# Altium footprint library 0805RES.PcbLib: 1 footprints
Each footprint in its own frame and in the unit in brackets; x right, y up, seen from the top. Pads: shape width x height; smd on the part's side, far side on the other; paste and mask are expansions set on the pad; w line width, h text height; cw(c..) or ccw(c..) is an arc to the next point about the centre after c.
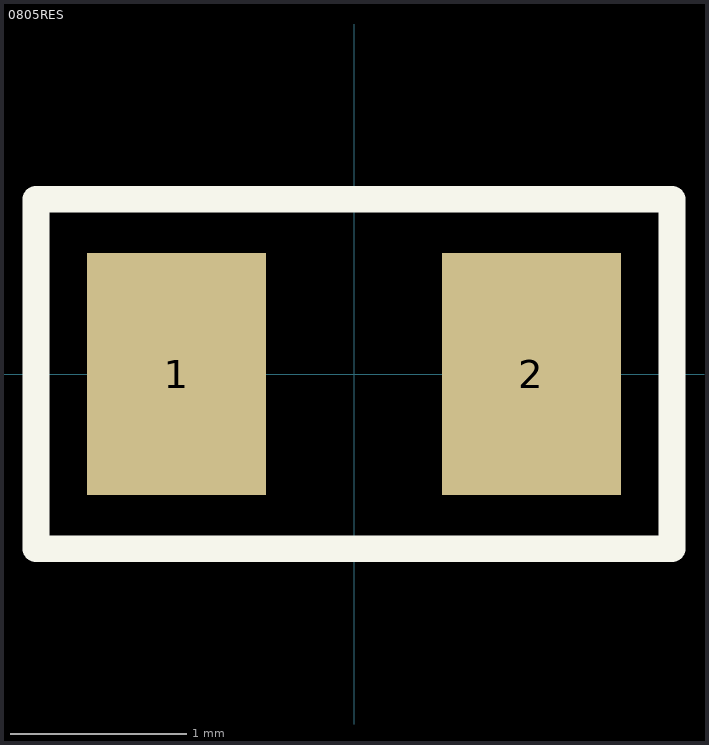
[diagram p0: the footprint, top view; thin cyan lines are the x and y axes]

## 0805RES [mil] "Chip Resistor Body 2.0 x 1.2 mm (LxW typ)"
height 25.98
pads (2):
  rect 40x54 smd: 1(-39.6,0) 2(39.6,0)
Top Overlay:
  lines w6: -71,-39 71,-39 71,39 -71,39 -71,-39
3D body: height 0, standoff 0, extent -71,-39 71,39
3D body "R0805.step": height 18.66, standoff 0, extent -39.37,-24.65 39.37,24.65